# Altium schematic symbol library Schematic_Generic.SchLib: 6 symbols
Pins are listed as number, name and electrical type; pins without a type are passive.

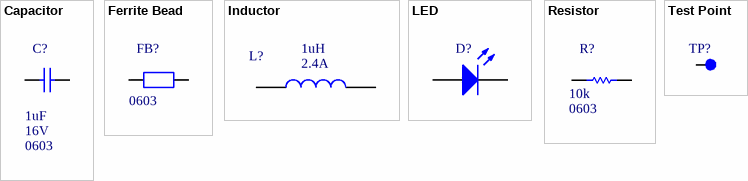
[diagram p0: symbols Capacitor to Test Point]

## Capacitor
designator C?  value 1uF  Rated Voltage: 16V  Package: 0603  (hidden comment: *)
General purpose capacitor
footprint CAPC1608X09N (Chip Capacitor, 2-Leads, Body 1.60x0.80mm, IPC Medium Density)
footprint CAPC0603X03N (Chip Capacitor, 2-Leads, Body 0.60x0.30mm, IPC Medium Density)
footprint CAPC1005X06N (Chip Capacitor, 2-Leads, Body 1.00x0.50mm, IPC Medium Density)
footprint CAPC2012X14N (Chip Capacitor, 2-Leads, Body 2.00x1.25mm, IPC Medium Density)
footprint CAPC3216X18N (Chip Capacitor, 2-Leads, Body 3.20x1.60mm, IPC Medium Density)
pins: 1, 2

## Ferrite Bead
designator FB?  Package: 0603  (hidden comment: *)
General purpose ferrite bead
footprint CAPC0603X03N (Chip Capacitor, 2-Leads, Body 0.60x0.30mm, IPC Medium Density)
footprint CAPC1005X06N (Chip Capacitor, 2-Leads, Body 1.00x0.50mm, IPC Medium Density)
footprint CAPC1608X09N (Chip Capacitor, 2-Leads, Body 1.60x0.80mm, IPC Medium Density)
footprint CAPC2012X14N (Chip Capacitor, 2-Leads, Body 2.00x1.25mm, IPC Medium Density)
footprint CAPC3216X18N (Chip Capacitor, 2-Leads, Body 3.20x1.60mm, IPC Medium Density)
pins: 1, 2

## Inductor
designator L?  value 1uH  Rated Current: 2.4A  (hidden comment: *)
General purpose inductor
footprint INDC3225X12N (Chip Inductor, 2-Leads, Body 3.20x2.50mm, IPC Medium Density)
footprint INDC2520X10N (Chip Inductor, 2-Leads, Body 2.50x2.00mm, IPC Medium Density)
pins: 1, 2

## LED
designator D?  (value not drawn)
General purpose LED
footprint DIOC1608X09N (Chip Diode, 2-Leads, Body 1.60x0.80mm, IPC Medium Density)
footprint DIOC3216X11N (Chip Diode, 2-Leads, Body 3.20x1.60mm, IPC Medium Density)
pins: 1 A, 2 K

## Resistor
designator R?  value 10k  Package: 0603  (hidden comment: *)
General purpose resistor
footprint RESC0603X03N (Chip Resistor, 2-Leads, Body 0.60x0.30mm, IPC Medium Density)
footprint RESC1005X04N (Chip Resistor, 2-Leads, Body 1.00x0.50mm, IPC Medium Density)
footprint RESC1608X06N (Chip Resistor, 2-Leads, Body 1.60x0.80mm, IPC Medium Density)
footprint RESC2012X06N (Chip Resistor, 2-Leads, Body 2.00x1.25mm, IPC Medium Density)
footprint RESC3116X06N (Chip Resistor, 2-Leads, Body 3.10x1.60mm, IPC Medium Density)
pins: 1, 2

## Test Point
designator TP?
General purpose test point
footprint TP_CIRCULAR_SMD_1MM
footprint TP_CIRCULAR_TH_1MM
footprint TP_RECTANGULAR_0.5X1MM_CAST
footprint TP_RECTANGULAR_1.5X2MM
footprint TP_CIRCULAR_SMD_0.75MM
footprint TP_RECTANGULAR_0.75X1MM_CAST
footprint TP_CIRCULAR_TH_2.5MM
pins: 1